# Altium schematic symbol library Coilcraft.SchLib: 1 symbol
Pins are listed as number, name and electrical type; pins without a type are passive.

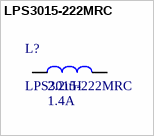
[diagram p0: symbol LPS3015-222MRC]

## LPS3015-222MRC
designator L?  value 2.2uH  Current: 1.4A
2.2 µH Shielded Inductor 1.4 A 110 mOhm; Manufacturer: Coilcraft; PartNumber: LPS3015-222MRC
footprint COILCRAFT-LPS3015
pins: 1, 2